# EAGLE library part 658561423030 (library WR-BTB)
WR-BTB Board to Board Characteristics Insulator flammability rating: UL94 V-0 Defined board to board distance from 5.00 mm up to 16.00 mm Available pin-counts: 64 pins (1.0 mm version) / 40, 80 or 100 pins (0.8 mm version) Contact plating: selective gold Operating temperature: -55 °C up to +85 °C Quality class: 30 mating cycles Contact resistance: 30 mΩ Working Voltage: 100 V (AC) UL approval: E323964 Applications Board-to-board connection for secure and fast data connections Defined PCB spacing In conjunction with SMT spacers or threaded spacers, a stable connection of stacked PCBs. <https://www.we-online.com/components/media/o790799v209%20WR-BTB_Gruppe.jpg> Details see: www.we-online.com/en/components/products/WR_BTB <www.we-online.com/catalog/WR_BTB/?utm_source=eagle_model&utm_medium=description_link&utm_campaign=eisos_eagle> Created by Ella 2025-05-14 2025(C) Würth Elektronik
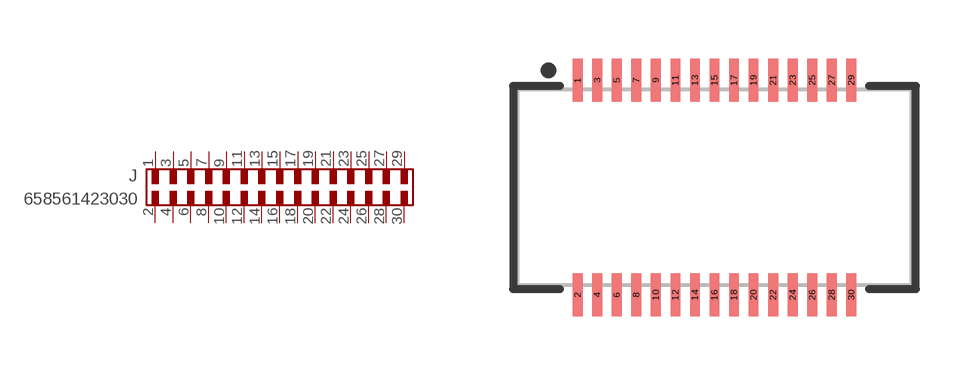
[diagram p25: symbol with the pads of 658561423030; footprint 658561423030]

Designator prefix J

## 658561423030 (DATASHEET-URL: https://www.we-online.com/redexpert/spec/658561423030?ae; GENDER: Plug; HEIGHT: 1.4mm; IR: 300mA; MOUNT: SMT; PACKAGING: Tape and Reel with Cap; PART-NUMBER: 658561423030; PINS: 30; PITCH: 0.5mm; TYPE: Vertical; VALUE: 658561423030)  [658561423030]
1  1  pas
2  2  pas
3  3  pas
4  4  pas
5  5  pas
6  6  pas
7  7  pas
8  8  pas
9  9  pas
10  10  pas
11  11  pas
12  12  pas
13  13  pas
14  14  pas
15  15  pas
16  16  pas
17  17  pas
18  18  pas
19  19  pas
20  20  pas
21  21  pas
22  22  pas
23  23  pas
24  24  pas
25  25  pas
26  26  pas
27  27  pas
28  28  pas
29  29  pas
30  30  pas

## Footprint 658561423030 (pad centres in mm)
WR-BTB Board to Board Pitch: 0.5mm, Plug, 30pins, SMT Height = 1.4mm
smd 0.25 x 1.1: 1 -3.5,2.75; 2 -3.5,-2.75; 3 -3,2.75; 4 -3,-2.75; 5 -2.5,2.75; 6 -2.5,-2.75; 7 -2,2.75; 8 -2,-2.75; 9 -1.5,2.75; 10 -1.5,-2.75; 11 -1,2.75; 12 -1,-2.75; 13 -0.5,2.75; 14 -0.5,-2.75; 15 0,2.75; 16 0,-2.75; 17 0.5,2.75; 18 0.5,-2.75; 19 1,2.75; 20 1,-2.75; 21 1.5,2.75; 22 1.5,-2.75; 23 2,2.75; 24 2,-2.75; 25 2.5,2.75; 26 2.5,-2.75; 27 3,2.75; 28 3,-2.75; 29 3.5,2.75; 30 3.5,-2.75